# EAGLE library part MC68SEC000 (library terriblefire)
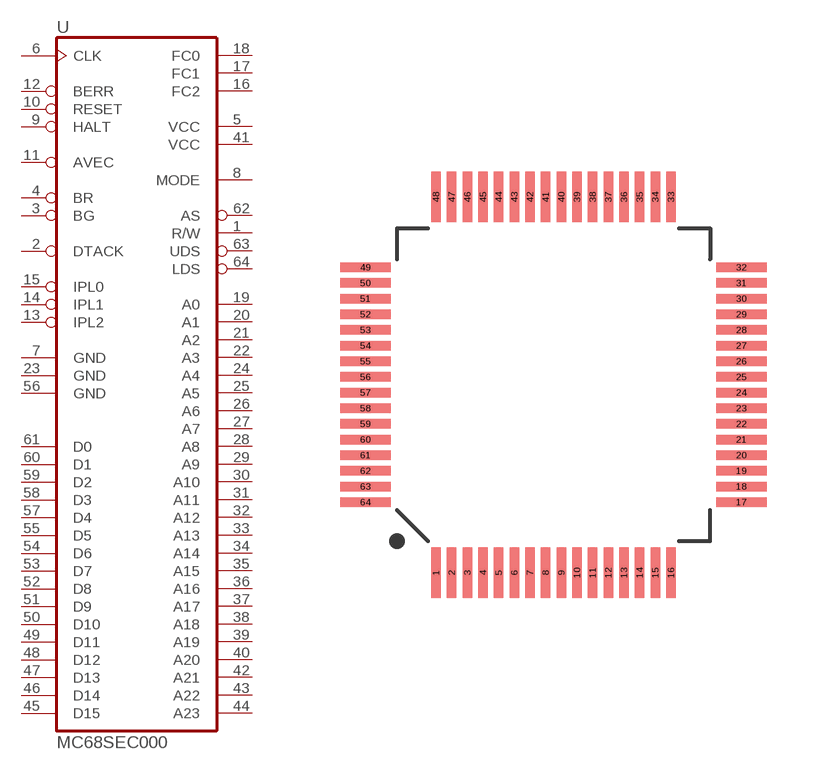
[diagram p2: symbol with the pads of QFP-64; footprint QFP-64]

Designator prefix -

## MC68SEC000  [QFP-64]
1  R/W  out
2  DTACK  in
3  BG  in
4  BR  in
5  VCC  pwr
6  CLK  in
7  GND  pwr
8  MODE  out
9  HALT
10  RESET
11  AVEC  in
12  BERR  in
13  IPL2  in
14  IPL1  in
15  IPL0  in
16  FC2  out
17  FC1  out
18  FC0  out
19  A0  out
20  A1  out
21  A2  out
22  A3  out
23  GND  pwr
24  A4  out
25  A5  out
26  A6  out
27  A7  out
28  A8  out
29  A9  out
30  A10  out
31  A11  out
32  A12  out
33  A13  out
34  A14  out
35  A15  out
36  A16  out
37  A17  out
38  A18  out
39  A19  out
40  A20  out
41  VCC  pwr
42  A21  out
43  A22  out
44  A23  out
45  D15
46  D14
47  D13
48  D12
49  D11
50  D10
51  D9
52  D8
53  D7
54  D6
55  D5
56  GND  pwr
57  D4
58  D3
59  D2
60  D1
61  D0
62  AS  out
63  UDS  out
64  LDS  out

## Footprint QFP-64 (pad centres in mm)
smd 0.3 x 1.6: 1 -3.75,-6; 2 -3.25,-6; 3 -2.75,-6; 4 -2.25,-6; 5 -1.75,-6; 6 -1.25,-6; 7 -0.75,-6; 8 -0.25,-6; 9 0.25,-6; 10 0.75,-6; 11 1.25,-6; 12 1.75,-6; 13 2.25,-6; 14 2.75,-6; 15 3.25,-6; 16 3.75,-6; 33 3.75,6; 34 3.25,6; 35 2.75,6; 36 2.25,6; 37 1.75,6; 38 1.25,6; 39 0.75,6; 40 0.25,6; 41 -0.25,6; 42 -0.75,6; 43 -1.25,6; 44 -1.75,6; 45 -2.25,6; 46 -2.75,6; 47 -3.25,6; 48 -3.75,6
smd 1.6 x 0.3: 17 6,-3.75; 18 6,-3.25; 19 6,-2.75; 20 6,-2.25; 21 6,-1.75; 22 6,-1.25; 23 6,-0.75; 24 6,-0.25; 25 6,0.25; 26 6,0.75; 27 6,1.25; 28 6,1.75; 29 6,2.25; 30 6,2.75; 31 6,3.25; 32 6,3.75; 49 -6,3.75; 50 -6,3.25; 51 -6,2.75; 52 -6,2.25; 53 -6,1.75; 54 -6,1.25; 55 -6,0.75; 56 -6,0.25; 57 -6,-0.25; 58 -6,-0.75; 59 -6,-1.25; 60 -6,-1.75; 61 -6,-2.25; 62 -6,-2.75; 63 -6,-3.25; 64 -6,-3.75